# Altium schematic symbol library CC0805KRX5R6BB475.SchLib: 1 symbol
Pins are listed as number, name and electrical type; pins without a type are passive.

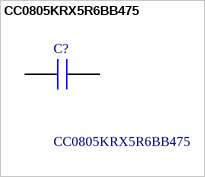
[diagram p0: symbol CC0805KRX5R6BB475]

## CC0805KRX5R6BB475
designator C?
Multilayer Ceramic Capacitors MLCC - SMD/SMT FACTORY IS CURRENTLY NOT ACCEPTING ORDERS; Manufacturer_Name: YAGEO; Geometry.Height: 1.45mm; Manufacturer_Part_Number: CC0805KRX5R6BB475; Mouser Part Number: 603-CC805KRX5R6BB475; Mouser Price/Stock: https://www.mouser.co.uk/ProductDetail/YAGEO/CC0805KRX5R6BB475?qs=Ywefl8B65e5%2FoaCpJWu2rg%3D%3D; Arrow Part Number: *; Arrow Price/Stock: *; Datasheet Link: https://www.mouser.in/datasheet/2/447/UPY_NP0X5R_01005_4V_to_25V_V10-3003057.pdf
footprint CAPC2012X145N
pins: 1, 2